# Altium schematic symbol library diode_zener.SchLib: 1 symbol
Pins are listed as number, name and electrical type; pins without a type are passive.

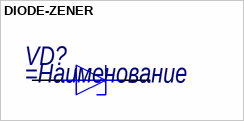
[diagram p0: symbol DIODE-ZENER]

## DIODE-ZENER
designator VD?
=Описание
pins: 1, 2